# EAGLE library part 6P6C_FEMALE (library Yijiano)
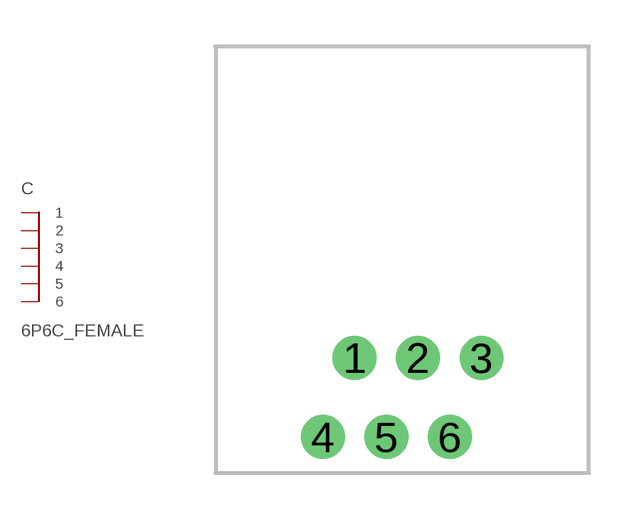
[diagram p0: symbol with the pads of 6P6C_FEMALE; footprint 6P6C_FEMALE]

Designator prefix C

## 6P6C_FEMALESMD  [6P6C_FEMALE]
1  1
2  2
3  3
4  4
5  5
6  6

## Footprint 6P6C_FEMALE (pad centres in mm)
drill 0.9 pad 1.3: 1 -1.53,1.27; 2 0.51,1.27; 3 2.55,1.27; 4 -2.55,-1.27; 5 -0.51,-1.27; 6 1.53,-1.27